# Altium schematic symbol library SCH_Mechanical.SchLib: 5 symbols
Pins are listed as number, name and electrical type; pins without a type are passive.

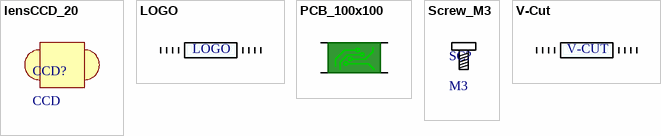
[diagram p0: symbols lensCCD_20 to V-Cut]

## lensCCD_20
designator CCD?, comment CCD
footprint CCD_LENS_20MM

## LOGO
designator LOGO  (value not drawn)
footprint LOGO_L
footprint LOGO_M

## PCB_100x100
designator PCB  (value not drawn)
PCB
footprint PCB_100x100
pins: 1, 2, 3, 4

## Screw_M3
designator SC?, comment M3
Screw
footprint 3D_SCREW_M3_8

## V-Cut
designator V-Cut  (value not drawn)
PCB
footprint PCB_V-cut
text: V-CUT